# Altium footprint library POE70P50LD.PcbLib: 1 footprints
Each footprint in its own frame and in the unit in brackets; x right, y up, seen from the top. Pads: shape width x height; smd on the part's side, far side on the other; paste and mask are expansions set on the pad; w line width, h text height; cw(c..) or ccw(c..) is an arc to the next point about the centre after c.
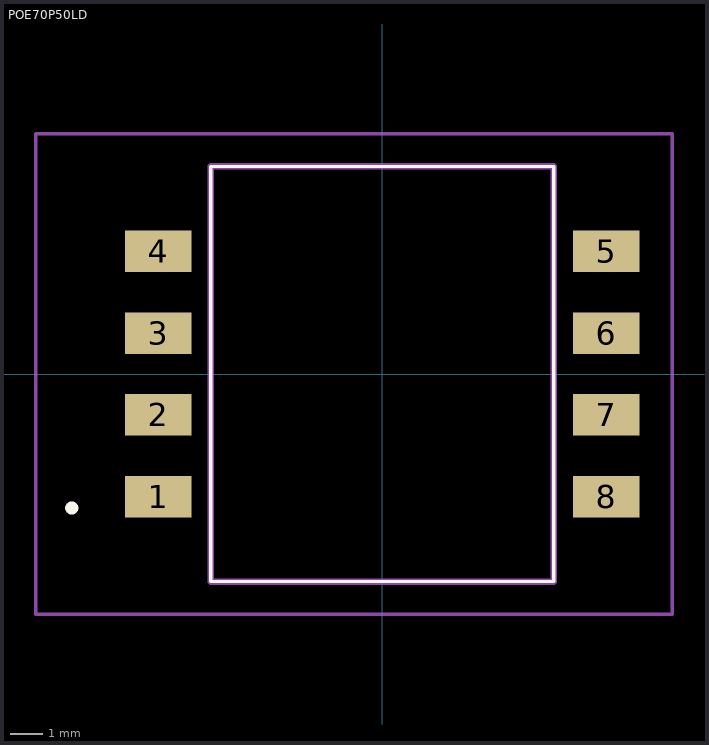
[diagram p0: the footprint, top view; thin cyan lines are the x and y axes]

## POE70P50LD [mm]
pads (8):
  rect 2.03x1.27 smd: 1(-6.855,-3.75) 2(-6.855,-1.25) 3(-6.855,1.25) 4(-6.855,3.75) 5(6.855,3.75) 6(6.855,1.25) 7(6.855,-1.25) 8(6.855,-3.75)
Top Overlay:
  lines w0.1: -5.25,-6.35 5.25,-6.35 5.25,6.35 -5.25,6.35 -5.25,-6.35
  lines w0.2: -9.5,-4.2 cw(c-9.5,-4.1) -9.5,-4 ; -9.5,-4.2 -9.5,-4.2 ; -9.5,-4.2 ccw(c-9.5,-4.1) -9.5,-4 ; -9.5,-4 -9.5,-4
Mechanical 15:
  lines w0.2: -5.25,-6.35 5.25,-6.35 5.25,6.35 -5.25,6.35 -5.25,-6.35
Mechanical 20:
  lines w0.1: -10.6,-7.35 8.87,-7.35 8.87,7.35 -10.6,7.35 -10.6,-7.35